# EAGLE library part ADCMP601 (library yapo)
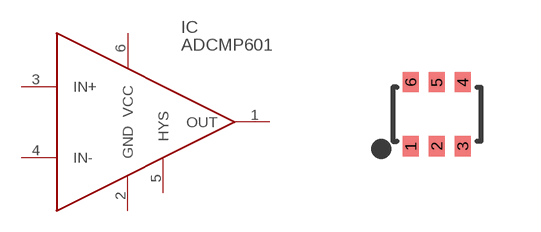
[diagram p82: symbol with the pads of SC70-6; footprint SC70-6]

Designator prefix IC

## ADCMP601  [SC70-6]
1  OUT
2  GND
3  IN+
4  IN-
5  HYS
6  VCC

## Footprint SC70-6 (pad centres in mm)
smd 0.4 x 0.5: 1 -0.65,-0.8; 2 0,-0.8; 3 0.65,-0.8; 4 0.65,0.8; 5 0,0.8; 6 -0.65,0.8